# Altium footprint library PcbLib1.PcbLib: 5 footprints
Each footprint in its own frame and in the unit in brackets; x right, y up, seen from the top. Pads: shape width x height; smd on the part's side, far side on the other; paste and mask are expansions set on the pad; w line width, h text height; cw(c..) or ccw(c..) is an arc to the next point about the centre after c.
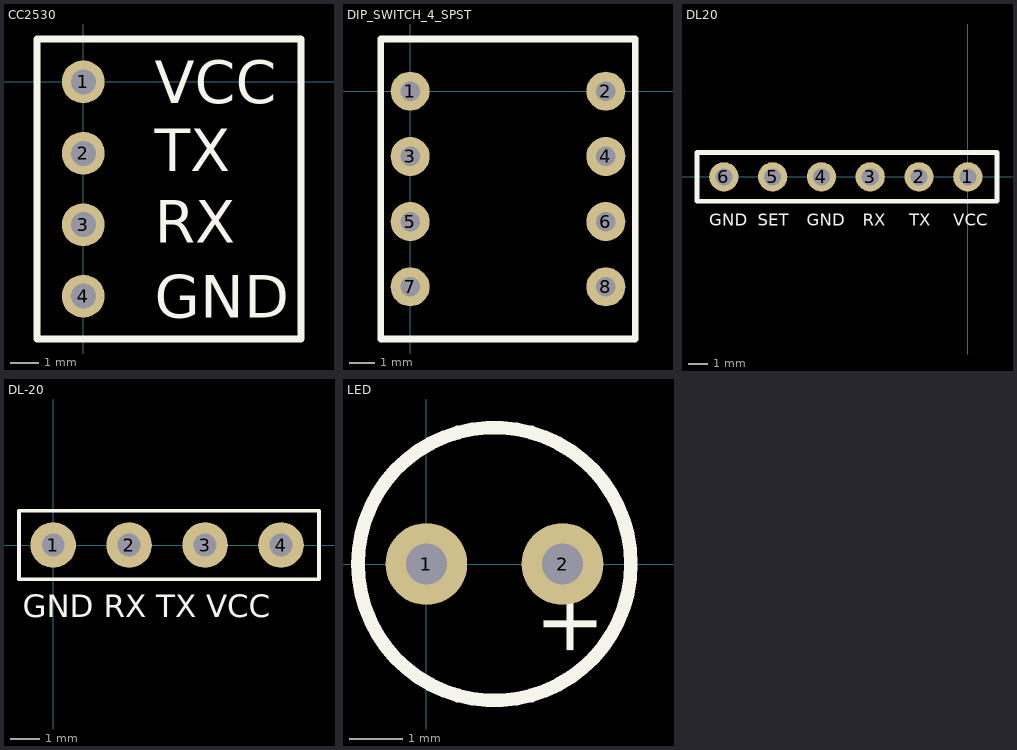
[diagram p0: the footprints below, top view; thin cyan lines are the x and y axes]

## CC2530 [mil]
pads (4):
  round 60 hole 35: 1(0,0) 2(0,-100) 3(0,-200) 4(0,-300)
Top Overlay:
  lines w10: -65,-360 -65,60 305,60 305,-360 -65,-360
  text "GND" at 100,-330 h60
  text "RX" at 100,-225 h60
  text "TX" at 100,-125 h60
  text "VCC" at 100,-30 h60
3D body: height 250, standoff 0, extent -65,-360 65,60

## DIP_SWITCH_4_SPST [mil] "SWITCH SLIDE DIP SPST 25MA 24V"
pads (8):
  round 60 hole 30: 1(0,0) 2(300,0) 3(0,-100) 4(300,-100) 5(0,-200) 6(300,-200) 7(0,-300) 8(300,-300)
Top Overlay:
  lines w10: -45,-380 -45,80 345,80 345,-380 -45,-380
3D body "KAS1104E2.STEP": height 261.46, standoff -140.12, extent -39.88,-376.77 349.89,76.77
3D body: height 10, standoff 0, extent -45,80 -45,80

## DL20 [mil]
pads (6):
  round 60 hole 35: 1(0,0) 2(-100,0) 3(-200,0) 4(-300,0) 5(-400,0) 6(-500,0)
Top Overlay:
  lines w10: -555,-50 -555,50 59.84,50 59.84,-50 -555,-50
  text "GND" at -530,-100 h25
  text "SET" at -430,-100 h25
  text "GND" at -330,-100 h25
  text "RX" at -215,-100 h25
  text "TX" at -120,-100 h25
  text "VCC" at -30,-100 h25
3D body "zl262-6s_p2-54_l15-7_w2-54_h8-5.stp": height 334.65, standoff -118.11, extent -559.84,-50 59.84,50

## DL-20 [mil] "CC2530 Serial Module"
pads (4):
  round 60 hole 30: 1(0,0) 2(100,0) 3(200,0) 4(300,0)
Top Overlay:
  lines w5: -45,-45 350,-45 350,45 -45,45 -45,-45
  text "GND RX TX VCC" at -40,-95 h30
3D body "1x4.STEP": height 350, standoff -344.49, extent -45,-50 355,50

## LED [mil] "through hole LED"
pads (2):
  round 60 hole 30: 1(0,0) 2(100,0)
Top Overlay:
  lines w10: -50.12,0 cw(c50,0) 150.12,0 cw(c50,0) -50.12,0
  text "+" at 125,-70 h45
3D body "WP7113.STEP": height 348.58, standoff -1052.99, extent -59.57,-116.14 155,116.14